# Altium footprint library ESP32 DEV Module.PcbLib: 1 footprints
Each footprint in its own frame and in the unit in brackets; x right, y up, seen from the top. Pads: shape width x height; smd on the part's side, far side on the other; paste and mask are expansions set on the pad; w line width, h text height; cw(c..) or ccw(c..) is an arc to the next point about the centre after c.
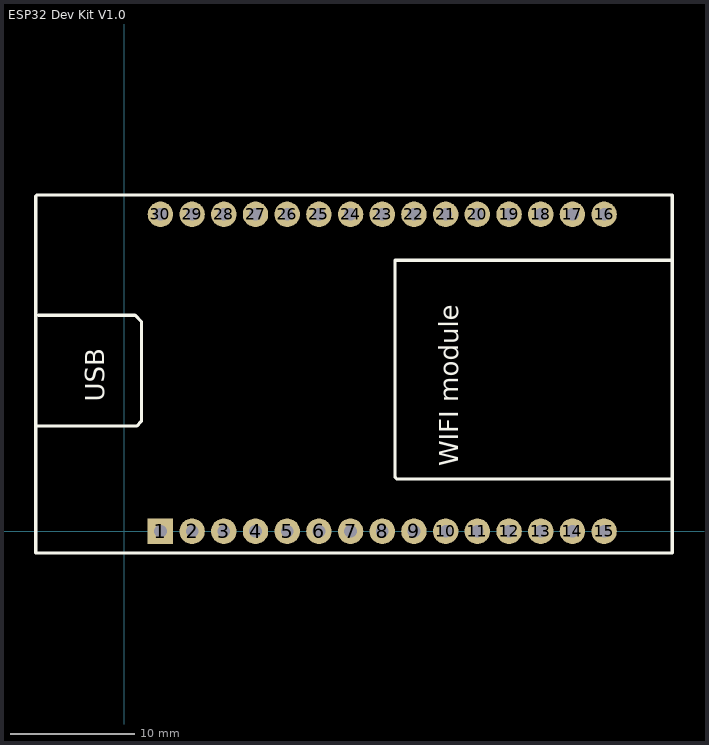
[diagram p0: the footprint, top view; thin cyan lines are the x and y axes]

## ESP32 Dev Kit V1.0 [mm]
pads (30):
  rect 2.04x2.04 hole 1.02: 1(2.911,0.002)
  round 2.04 hole 1.02: 2(5.451,0.002) 3(7.991,0.002) 4(10.531,0.002) 5(13.071,0.002) 6(15.611,0.002) 7(18.151,0.002) 8(20.691,0.002) 9(23.231,0.002) 10(25.771,0.002) 11(28.311,0.002) 12(30.851,0.002) 13(33.391,0.002) 14(35.931,0.002) 15(38.471,0.002) 16(38.471,25.4) 17(35.931,25.4) 18(33.391,25.4) 19(30.851,25.4) 20(28.311,25.4) 21(25.771,25.4) 22(23.231,25.4) 23(20.691,25.4) 24(18.151,25.4) 25(15.611,25.4) 26(13.071,25.4) 27(10.531,25.4) 28(7.991,25.4) 29(5.451,25.4) 30(2.911,25.4)
Top Overlay:
  lines w0.254: -7.075,26.875 -7.075,19.033 -7.075,3.348 -7.075,-1.75 4.605,-1.75 27.964,-1.75 43.925,-1.75 43.925,26.963 32.37,26.963 9.011,26.963 -7.025,26.963 ; -6.994,8.43 1.007,8.43 1.388,8.811 1.388,16.812 0.88,17.32 -6.867,17.32 ; 43.85,4.191 21.844,4.191 21.717,4.318 21.717,21.717 43.9,21.717
  text "WIFI module" at 26.797,5.207 h1.52
  text "USB" at -1.604,10.379 h1.52
3D body "ESP-WROOM32.STEP": height 6.6, standoff -5.8, extent -7.045,-1.729 43.885,26.771